# Altium footprint library PCB库.PcbLib: 20 footprints (part 2 of 2)
Each footprint in its own frame and in the unit in brackets; x right, y up, seen from the top. Pads: shape width x height; smd on the part's side, far side on the other; paste and mask are expansions set on the pad; w line width, h text height; cw(c..) or ccw(c..) is an arc to the next point about the centre after c.
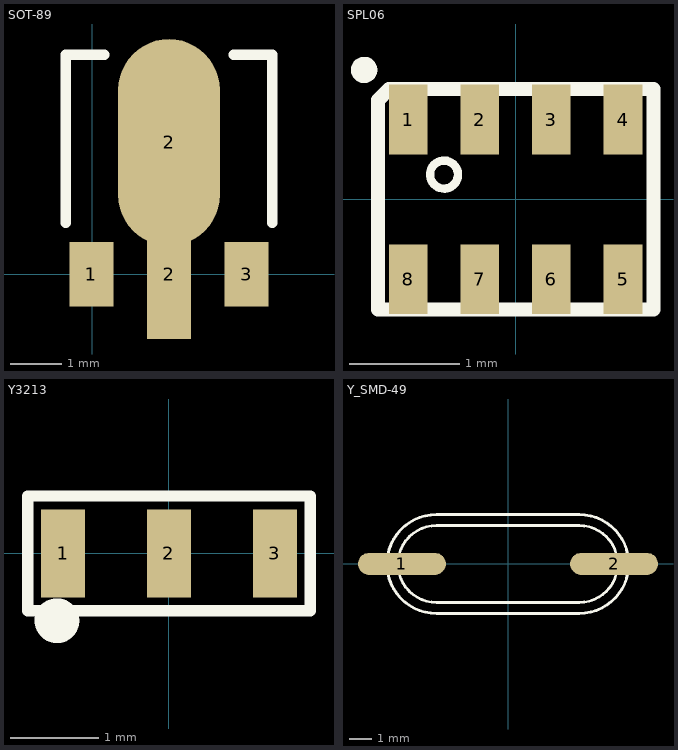
[diagram p1: the footprints below, top view; thin cyan lines are the x and y axes]

## SOT-89 [mil]
pads (4):
  rect 34x50 smd: 1(-0.5,-0.1) 3(119.5,-0.1)
  rect 34x100 smd: 2(59.5,-0.1)
  oval 78.74x160 smd: 2(59.5,102)
Top Overlay:
  lines w8: -20.5,39.9 -20.5,169.9 9.5,169.9 ; 109.5,169.9 139.5,169.9 139.5,39.9

## SPL06 [mm]
height 6
pads (8):
  rect 0.35x0.635 smd: 1(-0.975,0.725) 2(-0.325,0.725) 3(0.325,0.725) 4(0.975,0.725) 5(0.975,-0.725) 6(0.325,-0.725) 7(-0.325,-0.725) 8(-0.975,-0.725)
Top Overlay:
  circle w0.127: c-1.375,1.175 r0.056
  circle w0.076: c-0.65,0.225 r0.127
  lines w0.127: -1.25,-1 -1.25,0.9 -1.15,1 0,1 1.25,1 1.25,-1 -1.25,-1

## Y3213 [mm]
height 6
pads (3):
  rect 0.5x1 smd: 1(-1.2,0) 2(0,0) 3(1.2,0)
Top Overlay:
  circle w0.254: c-1.27,-0.762 r0.127
  lines w0.127: -1.6,-0.65 1.6,-0.65 1.6,0.65 -1.6,0.65 -1.6,-0.65
3D body: height 0.8, standoff 0, extent -1.524,-0.635 1.524,0.635

## Y_SMD-49 [mm]
height 6
pads (2):
  oval 4x1 smd: 1(-4.841,0.003) 2(4.811,0.003)
Top Overlay:
  lines w0.127: -3.272,-2.251 cw(c-3.272,-0.001) -3.272,2.249 3.228,2.249 cw(c3.228,-0.001) 3.228,-2.251 -3.272,-2.251 ; -3.272,-1.751 cw(c-3.272,-0.001) -3.272,1.749 3.228,1.749 cw(c3.228,-0.001) 3.228,-1.751 -3.272,-1.751
3D body: height 3.22, standoff -2.41, extent -5.342,-2.057 5.326,2.051